# EAGLE library part IC_MAX11613 (library akita)
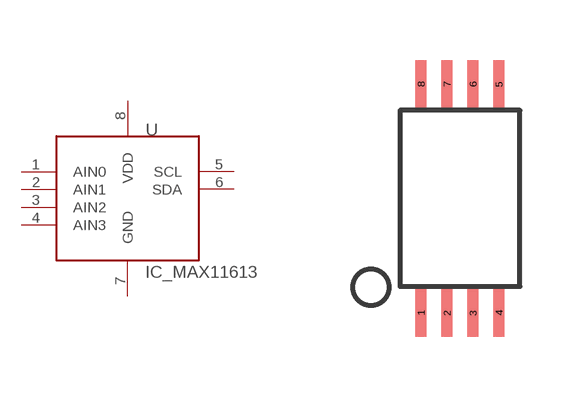
[diagram p106: symbol with the pads of TSSOP8; footprint TSSOP8]

Designator prefix -

## IC_MAX11613  [TSSOP8]
1  AIN0
2  AIN1
3  AIN2
4  AIN3
5  SCL
6  SDA
7  GND
8  VDD

## Footprint TSSOP8 (pad centres in mm)
http://www.ti.com/lit/ds/symlink/lm358.pdf
smd 0.27 x 1.2: 1 -0.975,-2.86; 2 -0.325,-2.86; 3 0.325,-2.86; 4 0.975,-2.86; 5 0.975,2.86; 6 0.325,2.86; 7 -0.325,2.86; 8 -0.975,2.86